# Altium footprint library MELF_0204.PcbLib: 1 footprints
Each footprint in its own frame and in the unit in brackets; x right, y up, seen from the top. Pads: shape width x height; smd on the part's side, far side on the other; paste and mask are expansions set on the pad; w line width, h text height; cw(c..) or ccw(c..) is an arc to the next point about the centre after c.
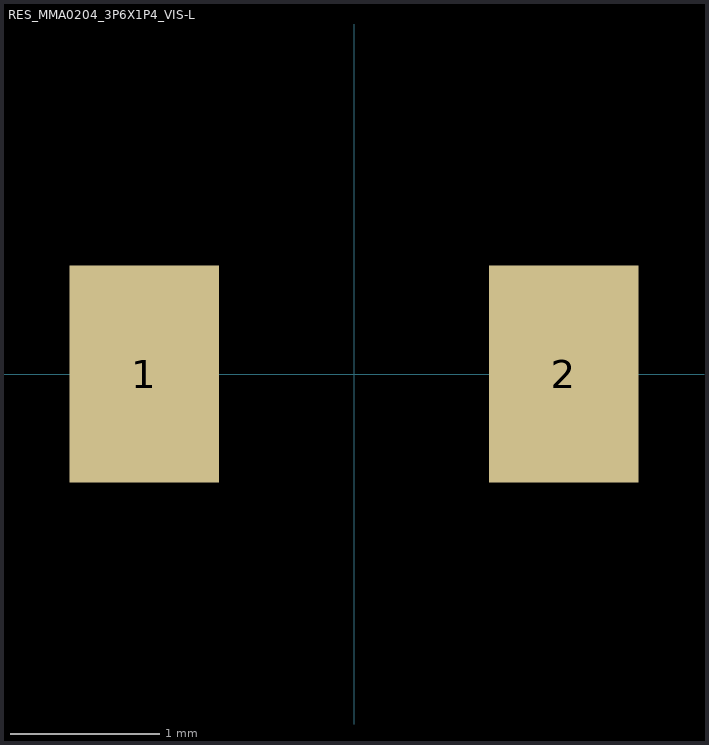
[diagram p0: the footprint, top view; thin cyan lines are the x and y axes]

## RES_MMA0204_3P6X1P4_VIS-L [mm]
pads (2):
  rect 1x1.45 smd paste+0 mask+0: 1(-1.4,0) 2(1.4,0)
3D body "56722.stp": height 1.4, standoff 0, extent -1.8,-0.7 1.8,0.7